# EAGLE library part NE555 (library Misc)
An idealized 555 timer model.
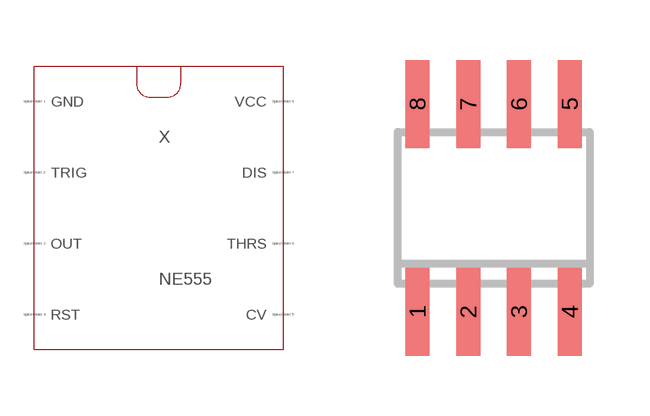
[diagram p0: symbol with the pads of SOIC8; footprint SOIC8]

Designator prefix X

## NE555  [SOIC8]
1  GND  pas
2  TRIG  pas
3  OUT  pas
4  RST  pas
5  CV  pas
6  THRS  pas
7  DIS  pas
8  VCC  pas

## Footprint SOIC8 (pad centres in mm)
Small Outline IC
smd 0.6 x 2.2: 1 -1.905,-2.6; 2 -0.635,-2.6; 3 0.635,-2.6; 4 1.905,-2.6; 5 1.905,2.6; 6 0.635,2.6; 7 -0.635,2.6; 8 -1.905,2.6